# EAGLE library part TPS54560DDAR (library AcceleratedDesigns_Lib)
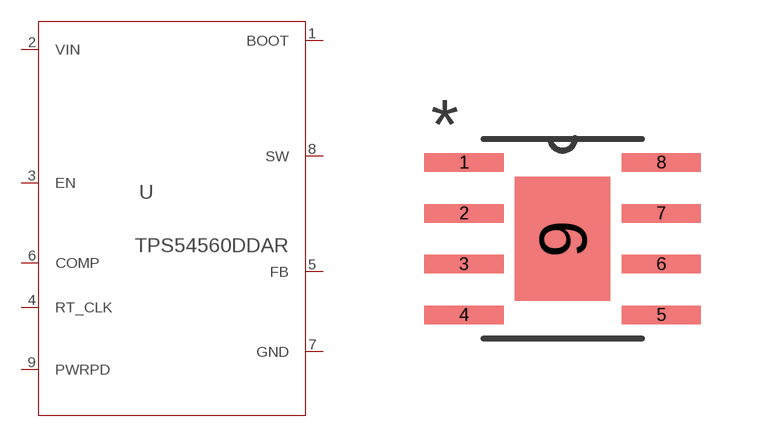
[diagram p0: symbol with the pads of R-PDSO-G8; footprint R-PDSO-G8]

Designator prefix -

## TPS54560DDAR (DATASHEETURL: httpwww.ti.comproductTPS54560; FREQUENCY: 2500000.0; IMAX: 5.0; MANUFACTURER_NAME: Texas Instruments; MANUFACTURER_PART_NUMBER: TPS54560DDAR; MKTG_PACKAGE: RPDSOG8; NSID: TPS54560DDAR; PACKAGE: RPDSOG8; VENDOR: Texas Instruments)  [R-PDSO-G8]
1  BOOT  pas
2  VIN  pas
3  EN  pas
4  RT_CLK  pas
5  FB  pas
6  COMP  pas
7  GND  pas
8  SW  pas
9  PWRPD  pas

## Footprint R-PDSO-G8 (pad centres in mm)
smd 1.981 x 0.461: 1 -2.464,1.905; 2 -2.464,0.635; 3 -2.464,-0.635; 4 -2.464,-1.905; 5 2.464,-1.905; 6 2.464,-0.635; 7 2.464,0.635; 8 2.464,1.905
smd 2.388 x 3.099: 9 0,0